# EAGLE library part PIC18F4550-I_P (library PIC18F4550-I_P)
USB Microcontrollers Source: Datasheet <http://componentsearchengine.com/Datasheets/1/PIC18F4550-I_P.pdf>
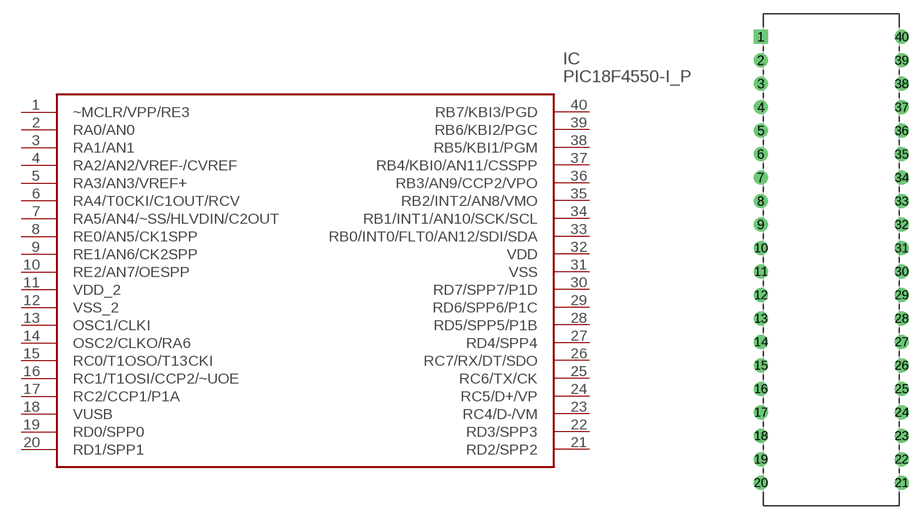
[diagram p0: symbol with the pads of DIP254P1524X635-40; footprint DIP254P1524X635-40]

Designator prefix IC

## PIC18F4550-I_P (Description: USB Microcontrollers; Height: mm; Manufacturer_Name: Microchip; Manufacturer_Part_Number: PIC18F4550-I/P; RS_Part_Number: 8877142; RS_Price/Stock: http://uk.rs-online.com/web/p/products/8877142)  [DIP254P1524X635-40]
1  ~MCLR/VPP/RE3  in
2  RA0/AN0  in
3  RA1/AN1  in
4  RA2/AN2/VREF-/CVREF  in
5  RA3/AN3/VREF+  in
6  RA4/T0CKI/C1OUT/RCV  in
7  RA5/AN4/~SS/HLVDIN/C2OUT  in
8  RE0/AN5/CK1SPP  in
9  RE1/AN6/CK2SPP  in
10  RE2/AN7/OESPP  in
11  VDD_2  in
12  VSS_2  in
13  OSC1/CLKI  in
14  OSC2/CLKO/RA6  in
15  RC0/T1OSO/T13CKI  in
16  RC1/T1OSI/CCP2/~UOE  in
17  RC2/CCP1/P1A  in
18  VUSB  in
19  RD0/SPP0  in
20  RD1/SPP1  in
21  RD2/SPP2  in
22  RD3/SPP3  in
23  RC4/D-/VM  in
24  RC5/D+/VP  in
25  RC6/TX/CK  in
26  RC7/RX/DT/SDO  in
27  RD4/SPP4  in
28  RD5/SPP5/P1B  in
29  RD6/SPP6/P1C  in
30  RD7/SPP7/P1D  in
31  VSS  in
32  VDD  in
33  RB0/INT0/FLT0/AN12/SDI/SDA  in
34  RB1/INT1/AN10/SCK/SCL  in
35  RB2/INT2/AN8/VMO  in
36  RB3/AN9/CCP2/VPO  in
37  RB4/KBI0/AN11/CSSPP  in
38  RB5/KBI1/PGM  in
39  RB6/KBI2/PGC  in
40  RB7/KBI3/PGD  in

## Footprint DIP254P1524X635-40 (pad centres in mm)
DIP254P1524X635-40
drill 0.991 pad 1.486 square: 1 -15.24,48.26
drill 0.991 pad 1.486: 2 -15.24,45.72; 3 -15.24,43.18; 4 -15.24,40.64; 5 -15.24,38.1; 6 -15.24,35.56; 7 -15.24,33.02; 8 -15.24,30.48; 9 -15.24,27.94; 10 -15.24,25.4; 11 -15.24,22.86; 12 -15.24,20.32; 13 -15.24,17.78; 14 -15.24,15.24; 15 -15.24,12.7; 16 -15.24,10.16; 17 -15.24,7.62; 18 -15.24,5.08; 19 -15.24,2.54; 20 -15.24,0; 21 0,0; 22 0,2.54; 23 0,5.08; 24 0,7.62; 25 0,10.16; 26 0,12.7; 27 0,15.24; 28 0,17.78; 29 0,20.32; 30 0,22.86; 31 0,25.4; 32 0,27.94; 33 0,30.48; 34 0,33.02; 35 0,35.56; 36 0,38.1; 37 0,40.64; 38 0,43.18; 39 0,45.72; 40 0,48.26